# Altium schematic symbol library pedals-transistors.SCHLIB: 59 symbols
Pins are listed as number, name and electrical type; pins without a type are passive.

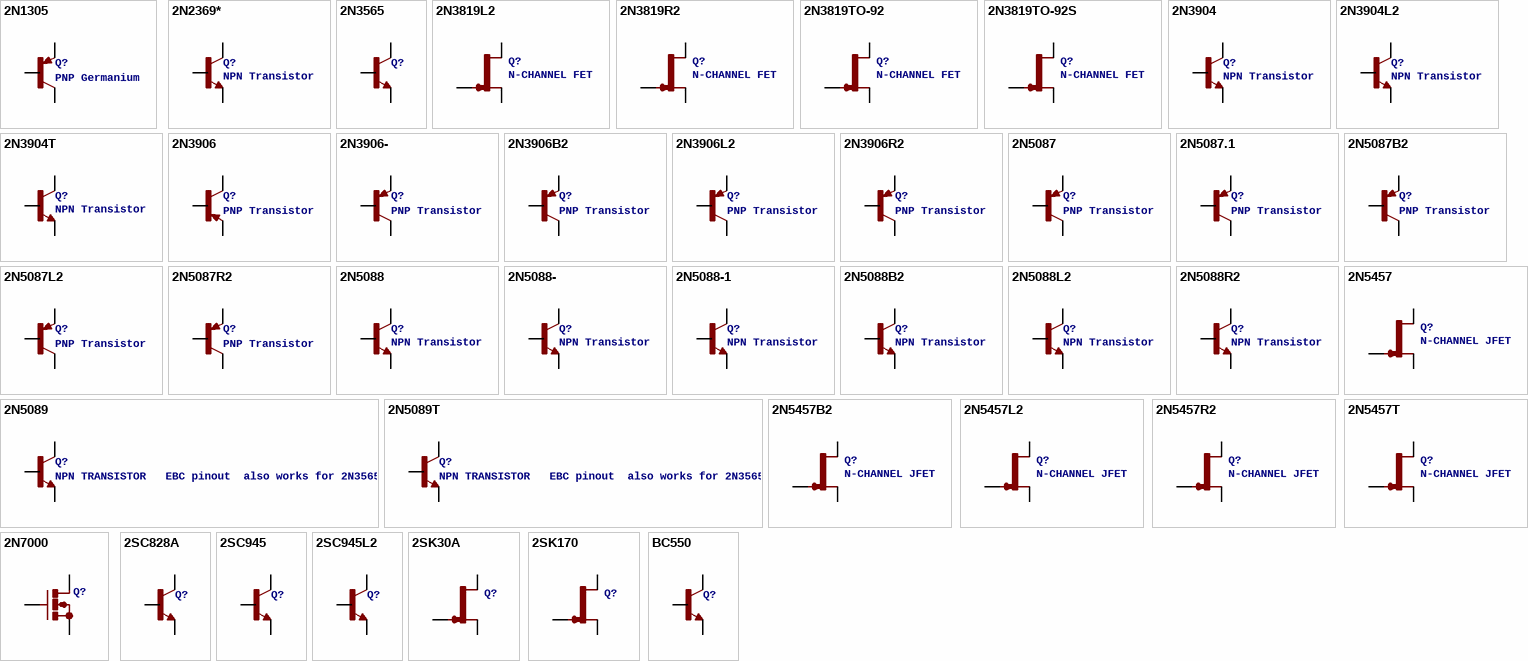
[diagram p0: symbols 2N1305 to BC550]

## 2N1305
designator Q?, comment PNP Germanium
footprint TO5
pins: 1 E, 2 B, 3 C

## 2N2369*
designator Q?, comment NPN Transistor
footprint TO18
pins: 1 E, 2 B, 3 C

## 2N3565
designator Q?
footprint TO92-FLAT
pins: 1 C, 2 B, 3 E

## 2N3819L2
designator Q?, comment N-CHANNEL FET
footprint TO92-L2
pins: 1 S, 2 G, 3 D

## 2N3819R2
designator Q?, comment N-CHANNEL FET
footprint TO92-R2
pins: 1 S, 2 G, 3 D

## 2N3819TO-92
designator Q?, comment N-CHANNEL FET
footprint TO92F
pins: 1 S, 2 G, 3 D

## 2N3819TO-92S
designator Q?, comment N-CHANNEL FET
footprint TO92-
pins: 1 S, 2 G, 3 D

## 2N3904
designator Q?, comment NPN Transistor
footprint TO92-
pins: 1 C, 2 B, 3 E

## 2N3904L2
designator Q?, comment NPN Transistor
footprint TO92-L2
pins: 1 C, 2 B, 3 E

## 2N3904T
designator Q?, comment NPN Transistor
footprint TO92
pins: 1 C, 2 B, 3 E

## 2N3906
designator Q?, comment PNP Transistor
footprint TO92
pins: 1 B, 2 E, 3 C

## 2N3906-
designator Q?, comment PNP Transistor
footprint TO92-
pins: 1 C, 2 B, 3 E

## 2N3906B2
designator Q?, comment PNP Transistor
footprint TO92-B2
pins: 1 C, 2 B, 3 E

## 2N3906L2
designator Q?, comment PNP Transistor
footprint TO92-L2
pins: 1 C, 2 B, 3 E

## 2N3906R2
designator Q?, comment PNP Transistor
footprint TO92-R2
pins: 1 C, 2 B, 3 E

## 2N5087
designator Q?, comment PNP Transistor
footprint TO92
pins: 1 C, 2 B, 3 E

## 2N5087.1
designator Q?, comment PNP Transistor
footprint TO92-
pins: 1 C, 2 B, 3 E

## 2N5087B2
designator Q?, comment PNP Transistor
footprint TO92-B2
pins: 1 C, 2 B, 3 E

## 2N5087L2
designator Q?, comment PNP Transistor
footprint TO92-L2
pins: 1 C, 2 B, 3 E

## 2N5087R2
designator Q?, comment PNP Transistor
footprint TO92-R2
pins: 1 C, 2 B, 3 E

## 2N5088
designator Q?, comment NPN Transistor
footprint TO92-
pins: 1 C, 2 B, 3 E

## 2N5088-
designator Q?, comment NPN Transistor
footprint TO92
pins: 1 C, 2 B, 3 E

## 2N5088-1
designator Q?, comment NPN Transistor
footprint TO92-
pins: 1 C, 2 B, 3 E

## 2N5088B2
designator Q?, comment NPN Transistor
footprint TO92-B2
pins: 1 C, 2 B, 3 E

## 2N5088L2
designator Q?, comment NPN Transistor
footprint TO92-L2
pins: 1 C, 2 B, 3 E

## 2N5088R2
designator Q?, comment NPN Transistor
footprint TO92-R2
pins: 1 C, 2 B, 3 E

## 2N5089
designator Q?, comment NPN TRANSISTOR   EBC pinout  also works for 2N3565
footprint TO92-
pins: 1 C, 2 B, 3 E

## 2N5089T
designator Q?, comment NPN TRANSISTOR   EBC pinout  also works for 2N3565
footprint TO92
pins: 1 C, 2 B, 3 E

## 2N5457
designator Q?, comment N-CHANNEL JFET
footprint TO92-
pins: 1 G, 2 S, 3 D

## 2N5457B2
designator Q?, comment N-CHANNEL JFET
footprint TO92-B2
pins: 1 G, 2 S, 3 D

## 2N5457L2
designator Q?, comment N-CHANNEL JFET
footprint TO92-L2
pins: 1 G, 2 S, 3 D

## 2N5457R2
designator Q?, comment N-CHANNEL JFET
footprint TO92-R2
pins: 1 G, 2 S, 3 D

## 2N5457T
designator Q?, comment N-CHANNEL JFET
footprint TO92F
pins: 1 G, 2 S, 3 D

## 2N7000
designator Q?
footprint TO92-
pins: 1 D, 2 G, 3 S

## 2SC828A
designator Q?
footprint TO92-
pins: 1 B, 2 C, 3 E

## 2SC945
designator Q?
footprint TO92-
pins: 1 B, 2 C, 3 E

## 2SC945L2
designator Q?
footprint TO92-L2
pins: 1 B, 2 C, 3 E

## 2SK30A
designator Q?
footprint TO92-
pins: 1 D, 2 G, 3 S

## 2SK170
designator Q?
footprint TO92-
pins: 1 S, 2 G, 3 D

## BC550
designator Q?
footprint TO92-
pins: 1 E, 2 B, 3 C

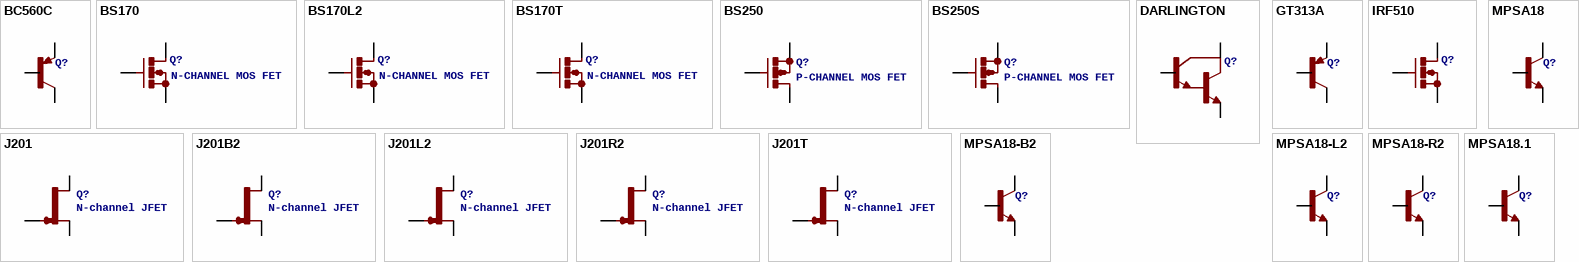
[diagram p1: symbols BC560C to MPSA18.1]

## BC560C
designator Q?
footprint TO92-
pins: 1 E, 2 B, 3 C

## BS170
designator Q?, comment N-CHANNEL MOS FET
footprint SOT54ES
pins: D, G, S

## BS170L2
designator Q?, comment N-CHANNEL MOS FET
footprint TO92-L2
pins: 1 S, 2 G, 3 D

## BS170T
designator Q?, comment N-CHANNEL MOS FET
footprint SOT54E
pins: D, G, S

## BS250
designator Q?, comment P-CHANNEL MOS FET
footprint SOT54E
pins: D, G, S

## BS250S
designator Q?, comment P-CHANNEL MOS FET
footprint SOT54ES
pins: D, G, S

## DARLINGTON
designator Q?
footprint TO92-
pins: 1 C, 2 B, 3 E

## GT313A
designator Q?
footprint GT313A
pins: B, C, E

## IRF510
designator Q?
footprint TO220_ALT
pins: 1 S, 2 D, 3 G

## J201
designator Q?, comment N-channel JFET
footprint TO92-
pins: 1 G, 2 S, 3 D

## J201B2
designator Q?, comment N-channel JFET
footprint TO92-B2
pins: 1 G, 2 S, 3 D

## J201L2
designator Q?, comment N-channel JFET
footprint TO92-L2
pins: 1 G, 2 S, 3 D

## J201R2
designator Q?, comment N-channel JFET
footprint TO92-R2
pins: 1 G, 2 S, 3 D

## J201T
designator Q?, comment N-channel JFET
footprint TO92F
pins: 1 G, 2 S, 3 D

## MPSA18
designator Q?
footprint TO92-
pins: 1 C, 2 B, 3 E

## MPSA18-B2
designator Q?
footprint TO92-B2
pins: 1 C, 2 B, 3 E

## MPSA18-L2
designator Q?
footprint TO92-L2
pins: 1 C, 2 B, 3 E

## MPSA18-R2
designator Q?
footprint TO92-R2
pins: 1 C, 2 B, 3 E

## MPSA18.1
designator Q?
footprint TO92
pins: 1 C, 2 B, 3 E